# Altium schematic symbol library R82xx.SchLib: 1 symbol
Pins are listed as number, name and electrical type; pins without a type are passive.

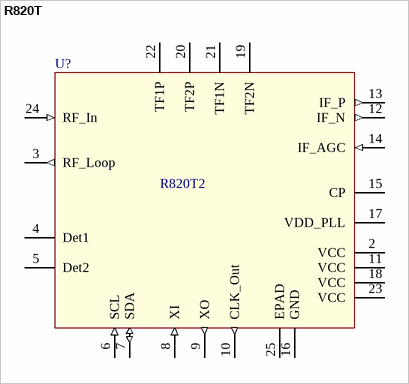
[diagram p0: symbol R820T]

## R820T
designator U?  value R820T2  (hidden comment: R820T)
DVB-T COFDM DEMODULATOR+USB 2.0
footprint QFN-24-4x4 (24-Pin Plastic Quad Flat No-Lead 0.5 mm Pitch, IPC Low Density)
pins: 2 VCC (power), 3 RF_Loop (out), 4 Det1, 5 Det2, 6 SCL (in), 7 SDA (io), 8 XI (in), 9 XO (out), 10 CLK_Out (out), 11 VCC (power), 12 IF_N (out), 13 IF_P (out), 14 IF_AGC (in), 15 CP, 16 GND (power), 17 VDD_PLL (power), 18 VCC (power), 19 TF2N, 20 TF2P, 21 TF1N, 22 TF1P, 23 VCC (power), 24 RF_In (in), 25 EPAD (power)